# Altium integrated library Kobiconn RCA Phono Jack.IntLib: 4 symbols
Pins are listed as number, name and electrical type; pins without a type are passive.

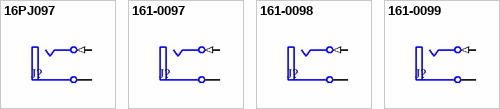
[diagram p0: symbols 16PJ097 to 161-0099]

## 16PJ097
designator J?
RCA Phono Jack, Right Angle, Thru-Hole, Non-Switched; PCB_Layout: Complies with manufacturer's recommendation.; DrillAndSlotSize: Corresponds to nominal value.; ComponentAvailability: Not Available; Published: 15-Jul-2004; DatasheetDocument: 27-Jan-1999; PackageDocument: 27-Jan-1999; PackageReference: 16PJ097; Publisher: Altium Limited; ComponentLink1Description: Manufacturer Link; ComponentLink1URL: http://www.mouser.com/kobiconn/
footprint 16PJ097 (Two Conductor Jack (RCA), Right Angle, Thru-Hole, Body 10 x 12 x 13 mm (WxTxH))
signal-integrity model RCA
pins: 1 Ground (power) "Outer Shield (Sleeve)", 3 Signal (in) "Center Pin (Plug Tip)"

## 161-0097
designator J?
RCA Phono Jack, Right Angle, Thru-Hole, Snap-In, Black; PCB_Layout: Complies with manufacturer's recommendation.; DrillAndSlotSize: Corresponds to nominal value.; Published: 15-Jul-2004; DatasheetDocument: 7-Jul-2000; PackageDocument: 7-Jul-2000; PackageReference: 161; Publisher: Altium Limited; ComponentLink1Description: Manufacturer Link; ComponentLink1URL: http://www.mouser.com/kobiconn/; ComponentLink2Description: Datasheet; ComponentLink2URL: http://www.mouser.com/catalog/specsheets/KC-300562.pdf
footprint 161 (Two Conductor Jack (RCA), Right Angle, Thru-Hole, Body 10 x 10 x 13 mm (WxTxH))
signal-integrity model RCA
pins: 1A Ground (power) "Outer Shield (Sleeve)", 2B Signal (in) "Center Pin (Plug Tip)"

## 161-0098
designator J?
RCA Phono Jack, Right Angle, Thru-Hole, Snap-In, White; PCB_Layout: Complies with manufacturer's recommendation.; DrillAndSlotSize: Corresponds to nominal value.; Published: 15-Jul-2004; DatasheetDocument: 7-Jul-2000; PackageDocument: 7-Jul-2000; PackageReference: 161; Publisher: Altium Limited; ComponentLink1Description: Manufacturer Link; ComponentLink1URL: http://www.mouser.com/kobiconn/; ComponentLink2Description: Datasheet; ComponentLink2URL: http://www.mouser.com/catalog/specsheets/KC-300562.pdf
footprint 161 (Two Conductor Jack (RCA), Right Angle, Thru-Hole, Body 10 x 10 x 13 mm (WxTxH))
signal-integrity model RCA
pins: 1A Ground (power) "Outer Shield (Sleeve)", 2B Signal (in) "Center Pin (Plug Tip)"

## 161-0099
designator J?
RCA Phono Jack, Right Angle, Thru-Hole, Snap-In, Yellow; PCB_Layout: Complies with manufacturer's recommendation.; DrillAndSlotSize: Corresponds to nominal value.; Published: 15-Jul-2004; DatasheetDocument: 7-Jul-2000; PackageDocument: 7-Jul-2000; PackageReference: 161; Publisher: Altium Limited; ComponentLink1Description: Manufacturer Link; ComponentLink1URL: http://www.mouser.com/kobiconn/; ComponentLink2Description: Datasheet; ComponentLink2URL: http://www.mouser.com/catalog/specsheets/KC-300562.pdf
footprint 161 (Two Conductor Jack (RCA), Right Angle, Thru-Hole, Body 10 x 10 x 13 mm (WxTxH))
signal-integrity model RCA
pins: 1A Ground (power) "Outer Shield (Sleeve)", 2B Signal (in) "Center Pin (Plug Tip)"